# EAGLE library part LT1936EMS8EPBF (library squirrel)
1.4A, 500kHz Step-Down Switching Regulator
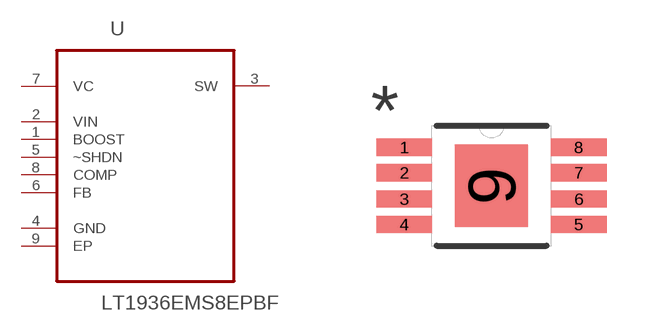
[diagram p11: symbol with the pads of SOP65P490X110-9N; footprint SOP65P490X110-9N]

Designator prefix U

## LT1936EMS8EPBF (MPN: LT1936EMS8E#PBF; OC_FARNELL: 1273791; OC_NEWARK: 57M7222; PACKAGE: MSOP-8; SUPPLIER: Linear Technology)  [SOP65P490X110-9N]
1  BOOST  pwr
2  VIN  pwr
3  SW  out
4  GND  pas
5  ~SHDN  in
6  FB  in
7  VC  pas
8  COMP  pas
9  EP  pas

## Footprint SOP65P490X110-9N (pad centres in mm)
smd 1.397 x 0.432: 1 -2.184,0.965; 2 -2.184,0.33; 3 -2.184,-0.33; 4 -2.184,-0.965; 5 2.184,-0.965; 6 2.184,-0.33; 7 2.184,0.33; 8 2.184,0.965
smd 1.829 x 2.057: 9 0,0